# Altium schematic symbol library ES1D-M3.SchLib: 1 symbol
Pins are listed as number, name and electrical type; pins without a type are passive.

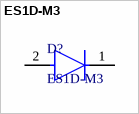
[diagram p0: symbol ES1D-M3]

## ES1D-M3
designator D?
footprint FP-SMA-MFG
pins: 1 C, 2 A